# Altium schematic symbol library SCH_LIB.SchLib: 34 symbols
Pins are listed as number, name and electrical type; pins without a type are passive.

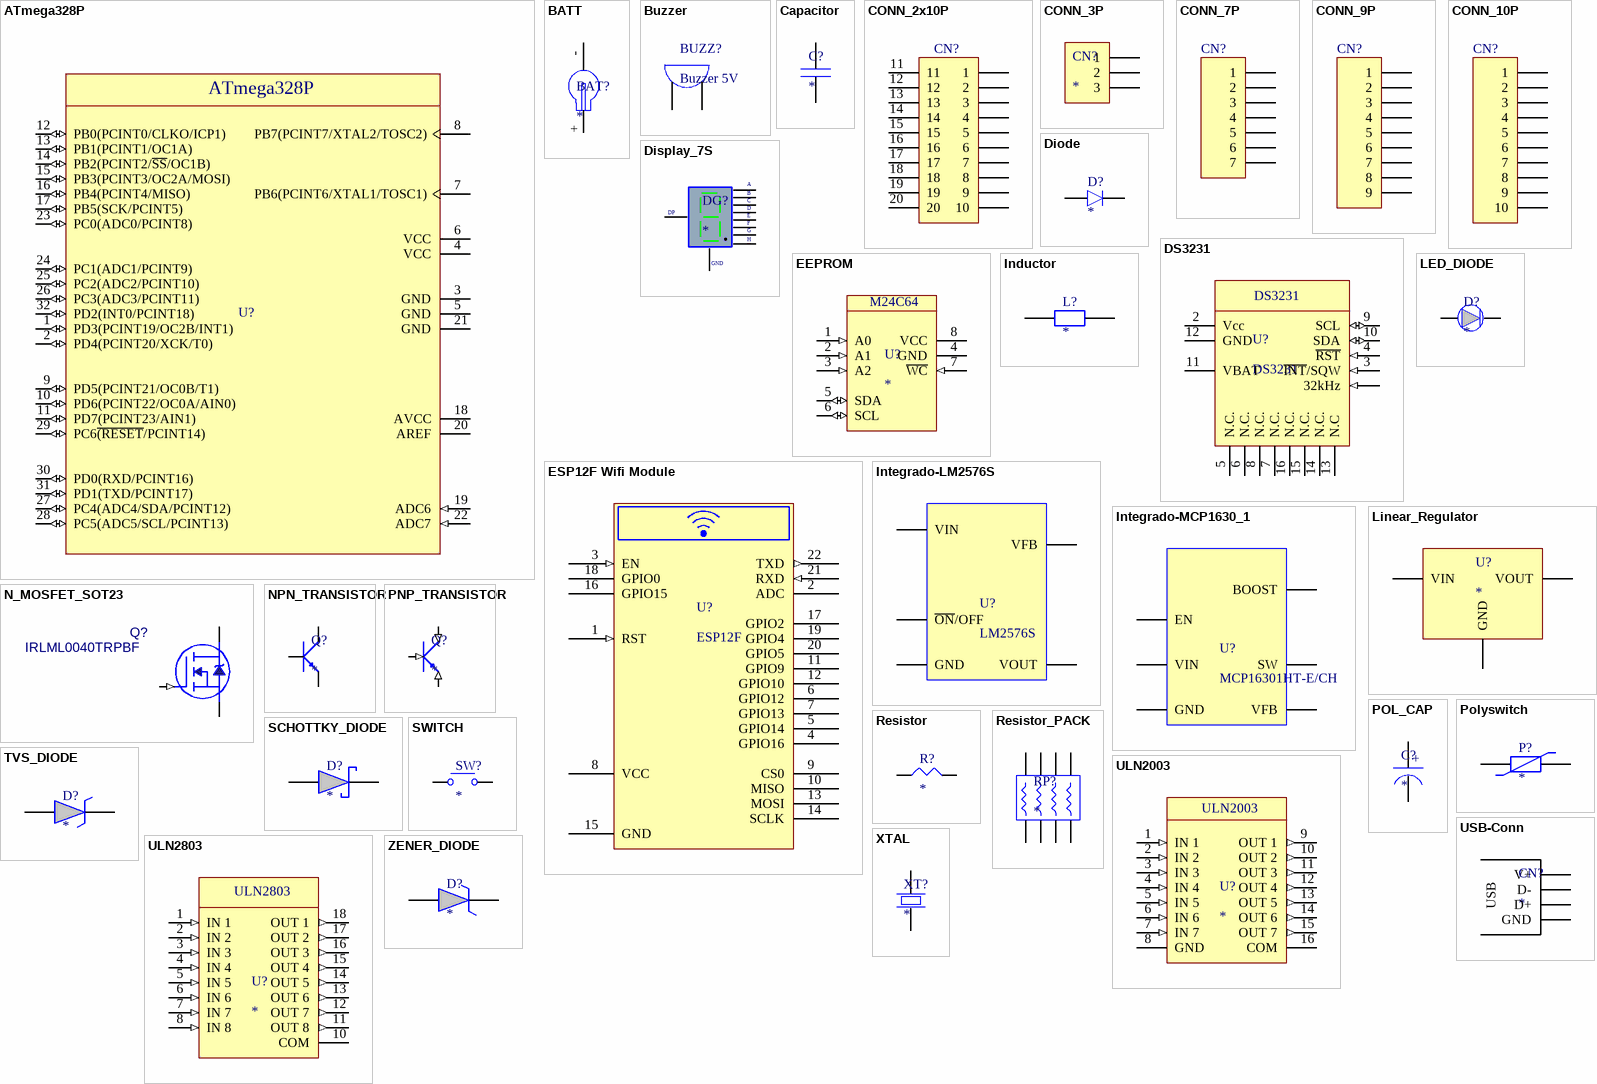
[diagram p0: symbols ATmega328P to ZENER_DIODE]

## ATmega328P
designator U?  (value not drawn)
Microcontroller
pins: 1 PD3(PCINT19/OC2B/INT1) (io) "(PCINT19/OC2B/INT1)", 2 PD4(PCINT20/XCK/T0) (io), 3 GND (power), 4 VCC (power), 5 GND (power), 6 VCC (power), 7 PB6(PCINT6/XTAL1/TOSC1), 8 PB7(PCINT7/XTAL2/TOSC2), 9 PD5(PCINT21/OC0B/T1) (io), 10 PD6(PCINT22/OC0A/AIN0) (io), 11 PD7(PCINT23/AIN1) (io), 12 PB0(PCINT0/CLKO/ICP1) (io), 13 PB1(PCINT1/OC1A) (io), 14 PB2(PCINT2/~{SS}/OC1B) (io), 15 PB3(PCINT3/OC2A/MOSI) (io), 16 PB4(PCINT4/MISO) (io), 17 PB5(SCK/PCINT5) (io), 18 AVCC (power), 19 ADC6 (in), 20 AREF (power), 21 GND (power), 22 ADC7 (in), 23 PC0(ADC0/PCINT8) (io), 24 PC1(ADC1/PCINT9) (io), 25 PC2(ADC2/PCINT10) (io), 26 PC3(ADC3/PCINT11) (io), 27 PC4(ADC4/SDA/PCINT12) (io), 28 PC5(ADC5/SCL/PCINT13) (io), 29 PC6~{(RESET}/PCINT14) (io), 30 PD0(RXD/PCINT16) (io), 31 PD1(TXD/PCINT17) (io), 32 PD2(INT0/PCINT18) (io)

## BATT
designator BAT?
Porta Pila CR2032
pins: + 1, - 2

## Buzzer
designator BUZZ?, comment Buzzer 5V
pins: 1, 2

## Capacitor
designator C?
100nF x 50v
pins: 1, 2

## CONN_2x10P
designator CN?
Connector Generic 2*10 Vias
pins: 1, 2, 3, 4, 5, 6, 7, 8, 9, 10, 11, 12, 13, 14, 15, 16, 17, 18, 19, 20

## CONN_3P
designator CN?
pins: 42 1, 43 2, 44 3

## CONN_7P
designator CN?
Connector Generic 7 Vias
pins: 1, 2, 3, 4, 5, 6, 7

## CONN_9P
designator CN?
Connector Generic 9 Vias
pins: 1, 2, 3, 4, 5, 6, 7, 8, 9

## CONN_10P
designator CN?
Connector Generic 10 Vias
pins: 1, 2, 3, 4, 5, 6, 7, 8, 9, 10

## Diode
designator D?
Signal Diode
pins: 1, 2

## Display_7S
designator DG?
Display 7 Seg. Catodo Comun
pins: 13, 14, 15, 16, 17, 18, 19, 20, 20, 20
text: A; B; C; D; DP; E; F; G; H; GND

## DS3231
designator U?
Real Time Clock
pins: 1 32kHz (in), 2 Vcc (power), 3 ~{INT}/SQW (in), 4 ~{RST} (in), 5 N.C., 6 N.C., 7 N.C., 8 N.C., 9 SCL (io), 10 SDA (io), 11 VBAT (power), 12 GND (power), 13 N.C, 14 N.C., 15 N.C., 16 N.C.

## EEPROM
designator U?
pins: 1 A0 (in), 2 A1 (in), 3 A2 (in), 4 GND (power), 5 SDA (io), 6 SCL (io), 7 ~{WC} (in), 8 VCC (power)
text: M24C64

## ESP12F Wifi Module
designator U?, comment ESP12F
Wifi Module
pins: 1 RST (in), 2 ADC, 3 EN (in), 4 GPIO16, 5 GPIO14, 6 GPIO12, 7 GPIO13, 8 VCC (power), 9 CS0, 10 MISO, 11 GPIO9, 12 GPIO10, 13 MOSI, 14 SCLK, 15 GND (power), 16 GPIO15, 17 GPIO2, 18 GPIO0, 19 GPIO4, 20 GPIO5, 21 RXD (in), 22 TXD (out)

## Inductor
designator L?
Inductor
pins: 1, 2

## Integrado-LM2576S
designator U?, comment LM2576S
Driver Switching
pins: 1 VIN, 2 VOUT, 3 GND, 4 VFB, 5 ~{ON}/OFF

## Integrado-MCP1630_1
designator U?, comment MCP16301HT-E/CH
Driver Switching
pins: 1 BOOST, 2 GND, 3 VFB, 4 EN, 5 VIN, 6 SW

## LED_DIODE
designator D?
LED rojo 0805
pins: 1, 2

## Linear_Regulator
designator U?
Regulador Lineal
pins: 1 VIN, 2 GND, 3 VOUT

## N_MOSFET_SOT23
designator Q?, comment IRLML0040TRPBF
Mosfet N-Ch
pins: 1 GATE (in), 2 SOURCE, 3 DRAIN

## NPN_TRANSISTOR
designator Q?
pins: 1, 2, 3

## PNP_TRANSISTOR
designator Q?
pins: 1 B (in), 2 C (in), 3 E (in)

## POL_CAP
designator C?
Capacitor polarizado
pins: 1, 2
text: +

## Polyswitch
designator P?
Polyswitch
pins: 1, 2

## Resistor
designator R?
pins: 1, 2

## Resistor_PACK
designator RP?
pins: 1, 2, 3, 4, 5, 6, 7, 8

## SCHOTTKY_DIODE
designator D?
Diodo Schottky
pins: 1, 2

## SWITCH
designator SW?
NO Switch
pins: 1, 2

## TVS_DIODE
designator D?
Diodo supresor
pins: 1, 2

## ULN2003
designator U?
pins: 1 IN 1 (in), 2 IN 2 (in), 3 IN 3 (in), 4 IN 4 (in), 5 IN 5 (in), 6 IN 6 (in), 7 IN 7 (in), 8 GND (power), 9 OUT 1 (out), 10 OUT 2 (out), 11 OUT 3 (out), 12 OUT 4 (out), 13 OUT 5 (out), 14 OUT 6 (out), 15 OUT 7 (out), 16 COM (power)

## ULN2803
designator U?
pins: 1 IN 1 (in), 2 IN 2 (in), 3 IN 3 (in), 4 IN 4 (in), 5 IN 5 (in), 6 IN 6 (in), 7 IN 7 (in), 8 IN 8 (in), 10 COM (power), 11 OUT 8 (out), 12 OUT 7 (out), 13 OUT 6 (out), 14 OUT 5 (out), 15 OUT 4 (out), 16 OUT 3 (out), 17 OUT 2 (out), 18 OUT 1 (out)

## USB-Conn
designator CN?
Conector USB 2.0 tipo B
pins: 1 V+, 2 D-, 3 D+, 4 GND
text: USB

## XTAL
designator XT?
crystal piezoelectric
pins: 4, 5

## ZENER_DIODE
designator D?
Diodo Zener
pins: 1, 2